# EAGLE library part AD8557 (library bytewerk-analog)
Sensor Signal Amplifier. Digitally Programmable Gain and Output Offset, Zero Drift and Very Low Offset Voltage
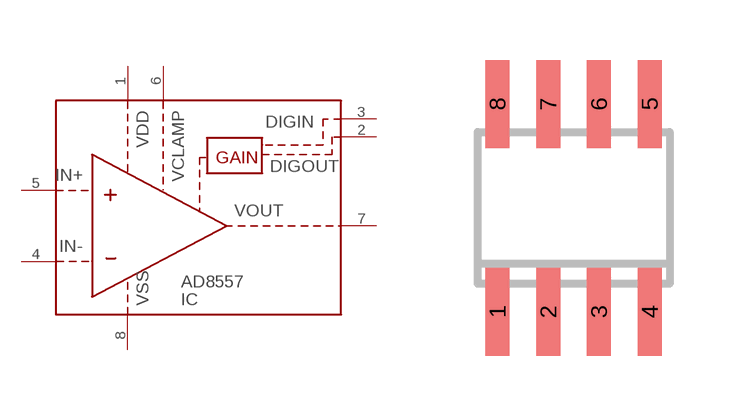
[diagram p2: symbol with the pads of SO-8; footprint SO-8]

Designator prefix IC

## AD8557 (MF: AD; MPN: AD8557; OC_MOUSER: 584-AD8557ARZ)  [SO-8]
1  VDD  pwr
2  DIGOUT  out
3  DIGIN  in
4  IN-  in
5  IN+  in
6  VCLAMP  in
7  VOUT  out
8  VSS  pwr

## Footprint SO-8 (pad centres in mm)
smd 0.6 x 2.2: 1 -1.905,-2.6; 2 -0.635,-2.6; 3 0.635,-2.6; 4 1.905,-2.6; 5 1.905,2.6; 6 0.635,2.6; 7 -0.635,2.6; 8 -1.905,2.6